# EAGLE library part 4R40P (library con-harting)
CONNECTOR
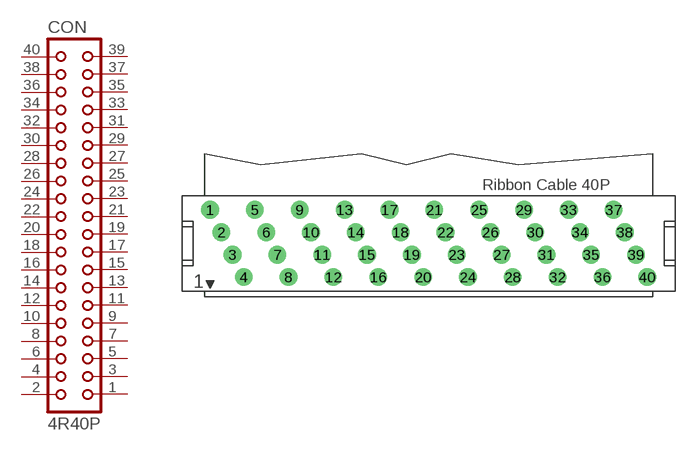
[diagram p24: symbol with the pads of 4R40P; footprint 4R40P]

Designator prefix CON

## 4R40P  [4R40P]
1  1  pas
2  2  pas
3  3  pas
4  4  pas
5  5  pas
6  6  pas
7  7  pas
8  8  pas
9  9  pas
10  10  pas
11  11  pas
12  12  pas
13  13  pas
14  14  pas
15  15  pas
16  16  pas
17  17  pas
18  18  pas
19  19  pas
20  20  pas
21  21  pas
22  22  pas
23  23  pas
24  24  pas
25  25  pas
26  26  pas
27  27  pas
28  28  pas
29  29  pas
30  30  pas
31  31  pas
32  32  pas
33  33  pas
34  34  pas
35  35  pas
36  36  pas
37  37  pas
38  38  pas
39  39  pas
40  40  pas

## Footprint 4R40P (pad centres in mm)
CONNECTOR
drill 0.813 pad 2 round: 1 -24.765,3.81; 2 -23.495,1.27; 3 -22.225,-1.27; 4 -20.955,-3.81; 5 -19.685,3.81; 6 -18.415,1.27; 7 -17.145,-1.27; 8 -15.875,-3.81; 9 -14.605,3.81; 10 -13.335,1.27; 11 -12.065,-1.27; 12 -10.795,-3.81; 13 -9.525,3.81; 14 -8.255,1.27; 15 -6.985,-1.27; 16 -5.715,-3.81; 17 -4.445,3.81; 18 -3.175,1.27; 19 -1.905,-1.27; 20 -0.635,-3.81; 21 0.635,3.81; 22 1.905,1.27; 23 3.175,-1.27; 24 4.445,-3.81; 25 5.715,3.81; 26 6.985,1.27; 27 8.255,-1.27; 28 9.525,-3.81; 29 10.795,3.81; 30 12.065,1.27; 31 13.335,-1.27; 32 14.605,-3.81; 33 15.875,3.81; 34 17.145,1.27; 35 18.415,-1.27; 36 19.685,-3.81; 37 20.955,3.81; 38 22.225,1.27; 39 23.495,-1.27; 40 24.765,-3.81